# EAGLE library part 74HC595 (library icv1)
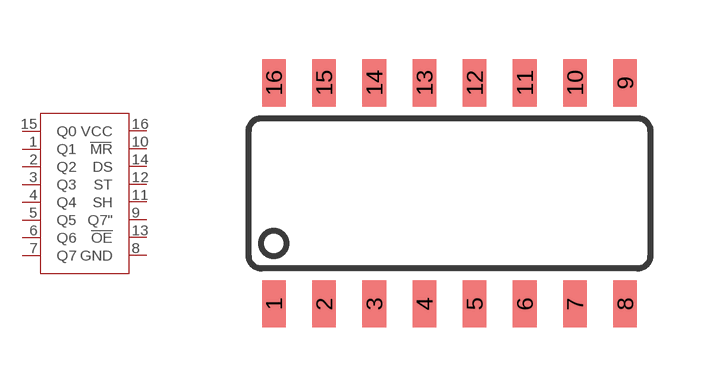
[diagram p0: symbol with the pads of SO16; footprint SO16]

Designator prefix -

## 74HC595  [SO16]
1  Q1
2  Q2
3  Q3
4  Q4
5  Q5
6  Q6
7  Q7
8  GND
9  Q7"
10  MR
11  SH
12  ST
13  OE
14  DS
15  Q0
16  VCC

## Footprint SO16 (pad centres in mm)
SOIC, 0.15 inch width
smd 0.6 x 1.2: 1 -4.445,-2.8; 2 -3.175,-2.8; 3 -1.905,-2.8; 4 -0.635,-2.8; 5 0.635,-2.8; 6 1.905,-2.8; 7 3.175,-2.8; 8 4.445,-2.8; 9 4.445,2.8; 10 3.175,2.8; 11 1.905,2.8; 12 0.635,2.8; 13 -0.635,2.8; 14 -1.905,2.8; 15 -3.175,2.8; 16 -4.445,2.8